# EAGLE library part AVR-ISP-6 (library usb_bdm)
AVR ISP-6 Serial Programming Header
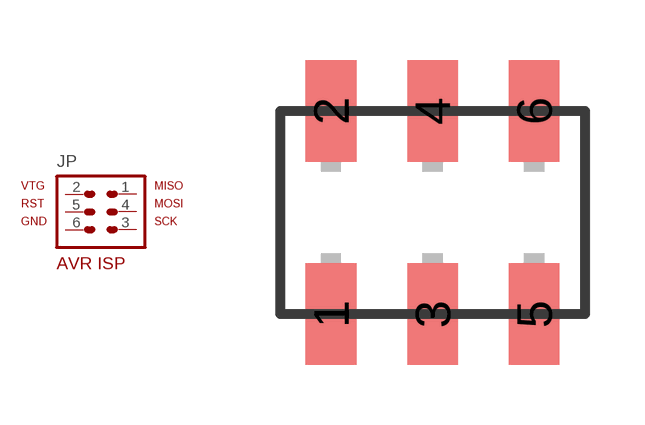
[diagram p0: symbol with the pads of AVR-ISP-6; footprint AVR-ISP-6]

Designator prefix JP

## AVR-ISP-6  [AVR-ISP-6]
1  1  pas
2  2  pas
3  3  pas
4  4  pas
5  5  pas
6  6  pas

## Footprint AVR-ISP-6 (pad centres in mm)
PIN HEADER JTAG 6 Pin, 0.1" Straight
smd 1.27 x 2.54: 1 -2.54,-2.54; 2 -2.54,2.54; 3 0,-2.54; 4 0,2.54; 5 2.54,-2.54; 6 2.54,2.54